# EAGLE library part P-04944_LS027B4DH01 (library Akizuki)
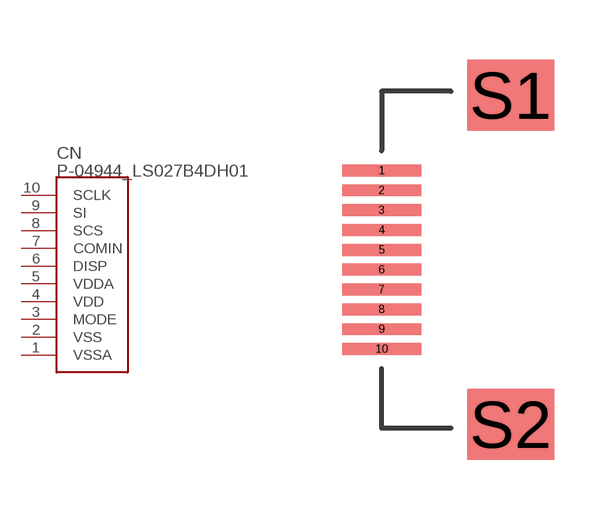
[diagram p33: symbol with the pads of FH12-10S-0.5SH; footprint FH12-10S-0.5SH]

Designator prefix CN

## P-04944_LS027B4DH01  [FH12-10S-0.5SH]
1  VSSA
2  VSS
3  MODE
4  VDD
5  VDDA
6  DISP
7  COMIN
8  SCS
9  SI
10  SCLK

## Footprint FH12-10S-0.5SH (pad centres in mm)
smd 2 x 0.3: 1 0,2.25; 2 0,1.75; 3 0,1.25; 4 0,0.75; 5 0,0.25; 6 0,-0.25; 7 0,-0.75; 8 0,-1.25; 9 0,-1.75; 10 0,-2.25
smd 2.2 x 1.8: S1 3.25,4.15; S2 3.25,-4.15